# Altium schematic symbol library china modules.SchLib: 1 symbol
Pins are listed as number, name and electrical type; pins without a type are passive.

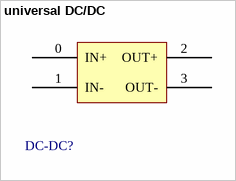
[diagram p0: symbol universal DC/DC]

## universal DC/DC
designator DC-DC?  (value not drawn)
footprint MP1584EN dc/dc 3A
footprint MP1584EN dc/dc 3A vertical
pins: 0 IN+ (power), 1 IN- (power), 2 OUT+ (power), 3 OUT- (power)